# EAGLE library part CAT3626HV4-GT2 (library IC_Power-Management)
6-Channel LED Driver with I2C Interface Datasheet <https://www.onsemi.com/pub/Collateral/CAT3626-D.PDF>
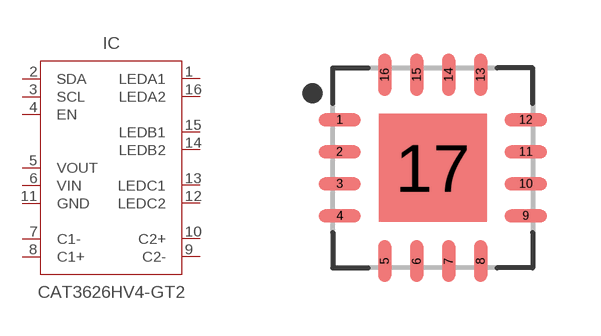
[diagram p8: symbol with the pads of QFN80P500X500X100-17T270; footprint QFN80P500X500X100-17T270]

Designator prefix IC

## CAT3626HV4-GT2TQFN16 (CATEGORY: IC_Power-Management; MANUFACTURER: ON Semiconductor; MPN: CAT3626HV4-GT2; OPERATING_TEMP: -40 to +85 °C; PART_STATUS: Active; ROHS_COMPLIANT: RoHS3 Compliant; SUB-CATEGORY: Driver; VALUE: CAT3626HV4)  [QFN80P500X500X100-17T270]
1  LEDA1
2  SDA
3  SCL  in
4  EN  in
5  VOUT  pwr
6  VIN  pwr
7  C1-
8  C1+
9  C2-
10  C2+
11  GND  pwr
12  LEDC2
13  LEDC1
14  LEDB2
15  LEDB1
16  LEDA2

## Footprint QFN80P500X500X100-17T270 (pad centres in mm)
16-QFN, 0.80 mm pitch, 5.00 X 5.00 X 1.00 mm body, 2.70 X 2.70 mm thermal pad 16-pin QFN package with 0.80 mm pitch with body size 5.00 X 5.00 X 1.00 mm and thermal pad size 2.70 X 2.70 mm
smd 1.053 x 0.32: 1 -2.329,1.2; 2 -2.329,0.4; 3 -2.329,-0.4; 4 -2.329,-1.2; 9 2.329,-1.2; 10 2.329,-0.4; 11 2.329,0.4; 12 2.329,1.2
smd 0.32 x 1.053: 5 -1.2,-2.329; 6 -0.4,-2.329; 7 0.4,-2.329; 8 1.2,-2.329; 13 1.2,2.329; 14 0.4,2.329; 15 -0.4,2.329; 16 -1.2,2.329
smd 2.7 x 2.7: 17 0,0